# Altium footprint library TSSOP16-SPE-74HC109.PcbLib: 1 footprints
Each footprint in its own frame and in the unit in brackets; x right, y up, seen from the top. Pads: shape width x height; smd on the part's side, far side on the other; paste and mask are expansions set on the pad; w line width, h text height; cw(c..) or ccw(c..) is an arc to the next point about the centre after c.
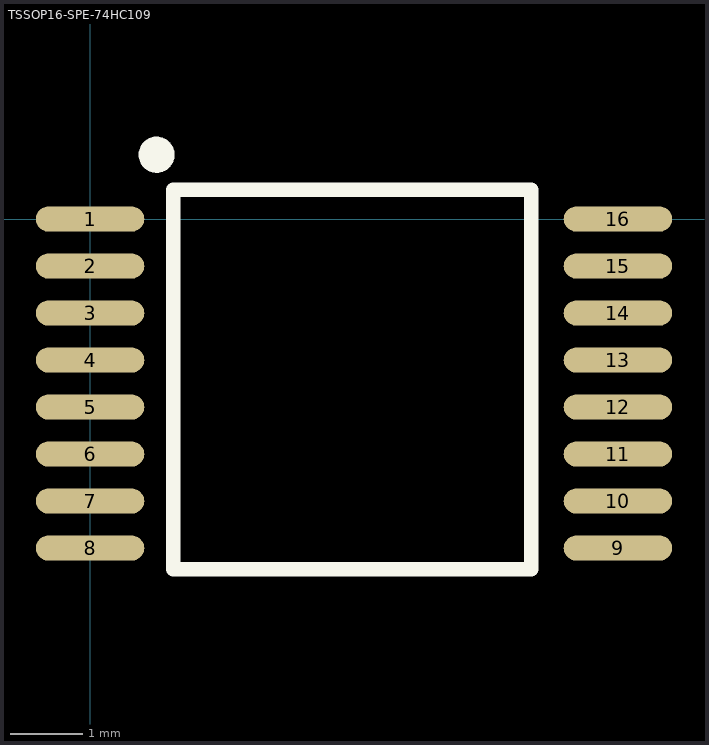
[diagram p0: the footprint, top view; thin cyan lines are the x and y axes]

## TSSOP16-SPE-74HC109 [mm]
height 1.2
pads (16):
  oval 1.5x0.35 smd: 1(0,0) 2(0,-0.65) 3(0,-1.3) 4(0,-1.95) 5(0,-2.6) 6(0,-3.25) 7(0,-3.9) 8(0,-4.55) 9(7.3,-4.55) 10(7.3,-3.9) 11(7.3,-3.25) 12(7.3,-2.6) 13(7.3,-1.95) 14(7.3,-1.3) 15(7.3,-0.65) 16(7.3,0)
Top Overlay:
  circle w0.25: c0.921,0.889 r0.125
  lines w0.2: 1.148,-4.845 6.101,-4.845 6.101,0.406 1.148,0.406 1.148,-4.845
3D body: height 1, standoff 0, extent -0.63,-4.761 7.95,0.239